# Altium footprint library Passives.PcbLib: 53 footprints (part 1 of 4)
Each footprint in its own frame and in the unit in brackets; x right, y up, seen from the top. Pads: shape width x height; smd on the part's side, far side on the other; paste and mask are expansions set on the pad; w line width, h text height; cw(c..) or ccw(c..) is an arc to the next point about the centre after c.
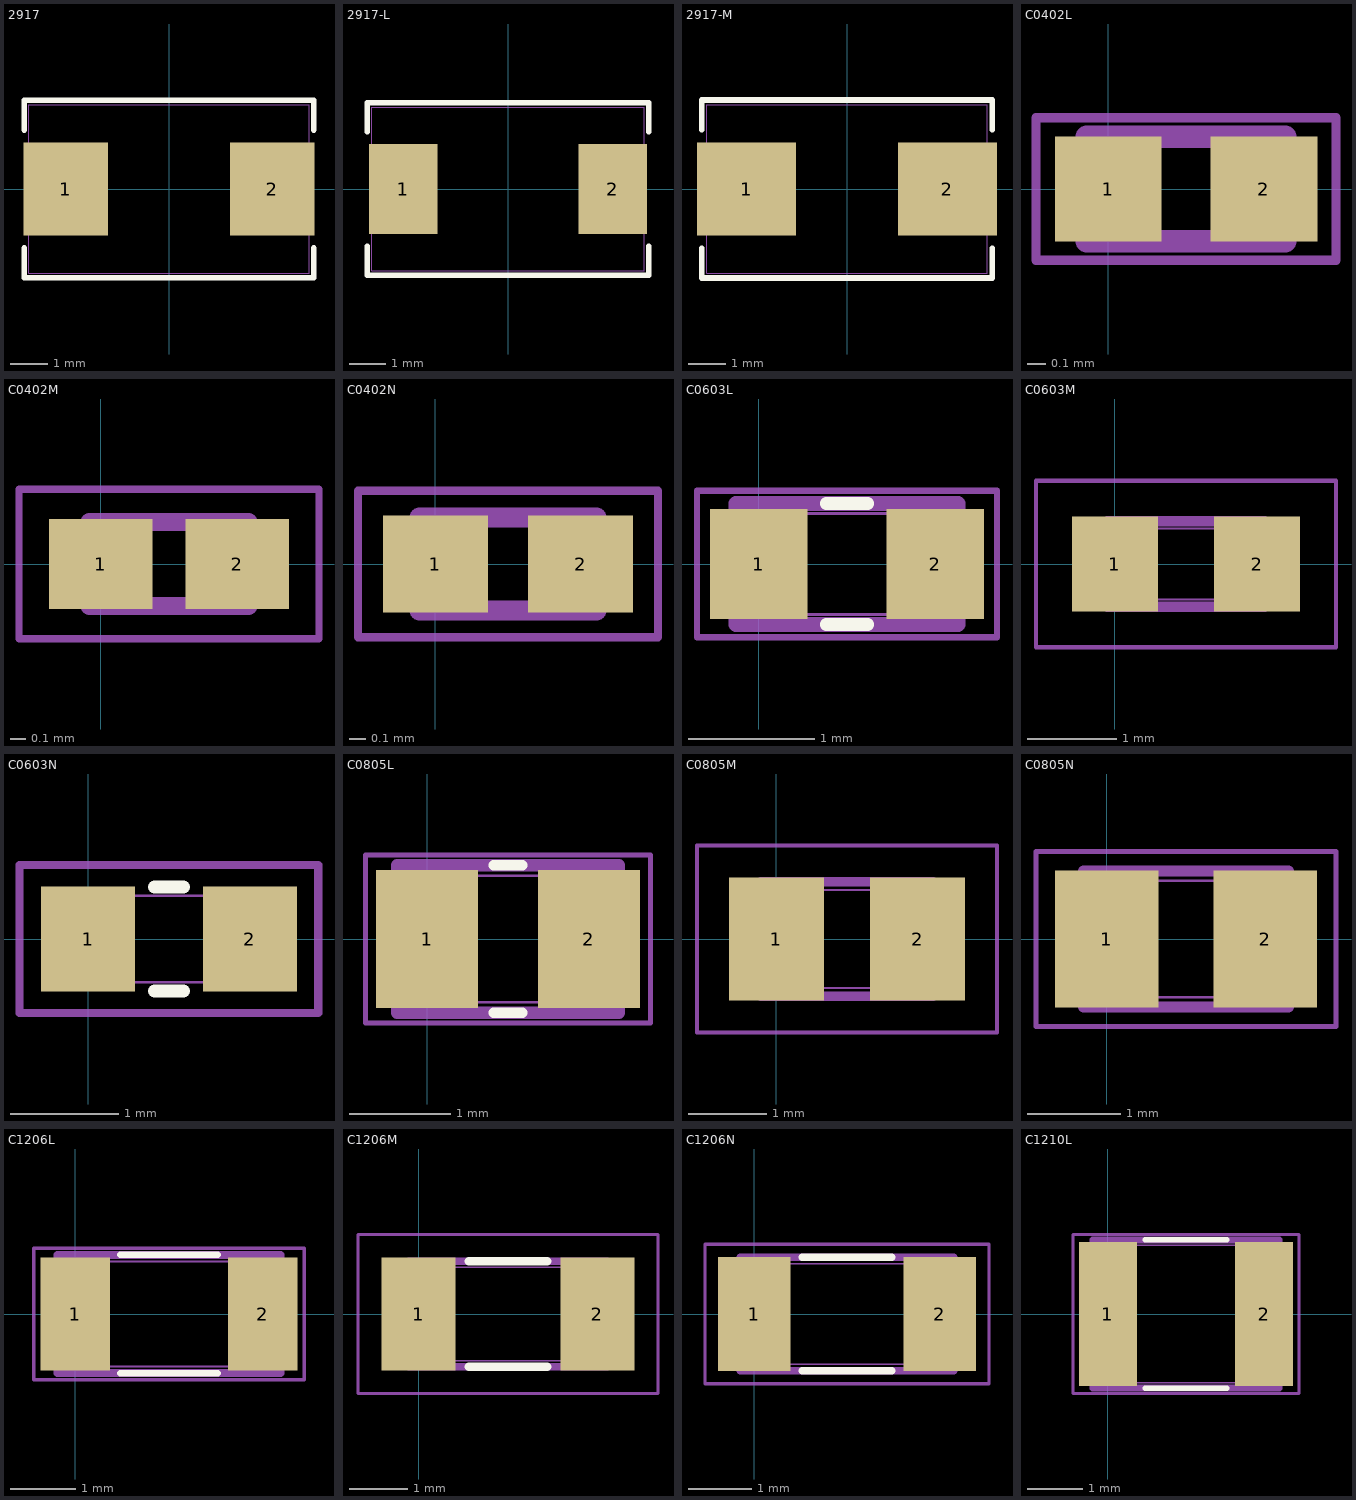
[diagram p0: the footprints below, top view; thin cyan lines are the x and y axes]

## 2917 [mil]
pads (2):
  rect 89x98 smd: 1(-109,0) 2(109,0)
Top Overlay:
  lines w6: -152.5,-62.1 -152.5,-93.5 152.5,-93.5 152.5,-62.1 ; -152.5,62.1 -152.5,93.5 152.5,93.5 152.5,62.1
Assembly Top:
  lines w1: -147.5,-88.5 147.5,-88.5 147.5,88.5 -147.5,88.5 -147.5,-88.5
  text ".designator" at -136,-25 h50
3D body: height 75, standoff 0, extent -147.48,-88.5 147.49,88.51

## 2917-L [mil]
pads (2):
  rect 74x98 all layers, no hole: 1(-113.5,0) 2(113.5,0)
Top Overlay:
  lines w6: -152.5,-61.95 -152.5,-93.5 152.5,-93.5 152.5,-61.95 ; -152.5,61.95 -152.5,93.5 152.5,93.5 152.5,61.95
Outline:
  lines w1: -147.5,-88.5 -147.5,88.5 147.5,88.5 147.5,-88.5 -147.5,-88.5
3D body: height 75, standoff 0, extent -147.48,-88.5 147.49,88.51

## 2917-M [mil]
pads (2):
  rect 104x98 all layers, no hole: 1(-105.5,0) 2(105.5,0)
Top Overlay:
  lines w6: -152.5,-62.1 -152.5,-93.5 152.5,-93.5 152.5,-62.1 ; -152.5,62.1 -152.5,93.5 152.5,93.5 152.5,62.1
Outline:
  lines w1: -147.5,-88.5 -147.5,88.5 147.5,88.5 147.5,-88.5 -147.5,-88.5
3D body: height 75, standoff 0, extent -147.48,-88.5 147.48,88.51

## C0402L [mm]
height 0.55
pads (2):
  rect 0.57x0.56 smd: 1(0,0) 2(0.83,0)
Assembly Top:
  lines w0.12: -0.115,-0.28 0.945,-0.28 0.945,0.28 -0.115,0.28 -0.115,-0.28
3D Top:
  lines w0.025: -0.085,-0.25 -0.085,0.25 ; -0.085,-0.25 0.215,-0.25 0.215,0.25 -0.085,0.25 ; -0.085,-0.25 0.915,-0.25 ; -0.085,-0.25 -0.085,0.25 ; -0.085,0.25 0.915,0.25 ; 0.915,-0.25 0.615,-0.25 0.615,0.25 0.915,0.25 ; 0.915,-0.25 0.915,0.25 ; 0.915,-0.25 0.915,0.25
Courtyard Top:
  circle w0.05: c0,0 r0.142
  lines w0.05: -0.19,0 0.19,0 ; 0,-0.19 0,0.19 ; -0.385,-0.38 1.215,-0.38 1.215,0.38 -0.385,0.38 -0.385,-0.38
3D body: height 0.55, standoff 0, extent -0.09,-0.25 0.91,0.25

## C0402M [mm]
height 0.55
pads (2):
  rect 0.69x0.6 smd: 1(0,0) 2(0.91,0)
Assembly Top:
  lines w0.12: -0.075,-0.28 -0.075,0.28 0.985,0.28 0.985,-0.28 -0.075,-0.28
3D Top:
  lines w0.025: -0.045,-0.25 -0.045,0.25 ; -0.045,-0.25 0.955,-0.25 ; -0.045,-0.25 0.255,-0.25 0.255,0.25 -0.045,0.25 ; -0.045,-0.25 -0.045,0.25 ; -0.045,0.25 0.955,0.25 ; 0.955,-0.25 0.955,0.25 ; 0.955,-0.25 0.955,0.25 ; 0.955,-0.25 0.655,-0.25 0.655,0.25 0.955,0.25
Courtyard Top:
  circle w0.05: c0,0 r0.188
  lines w0.05: -0.25,0 0.25,0 ; 0,-0.25 0,0.25 ; -0.545,-0.5 -0.545,0.5 1.455,0.5 1.455,-0.5 -0.545,-0.5
3D body: height 0.55, standoff 0, extent -0.039,-0.25 0.961,0.25

## C0402N [mm]
height 0.55
pads (2):
  rect 0.63x0.58 smd: 1(0,0) 2(0.87,0)
Assembly Top:
  lines w0.12: -0.095,-0.28 -0.095,0.28 0.965,0.28 0.965,-0.28 -0.095,-0.28
3D Top:
  lines w0.025: -0.065,-0.25 -0.065,0.25 ; -0.065,-0.25 0.935,-0.25 ; -0.065,-0.25 0.235,-0.25 0.235,0.25 -0.065,0.25 ; -0.065,-0.25 -0.065,0.25 ; -0.065,0.25 0.935,0.25 ; 0.935,-0.25 0.935,0.25 ; 0.935,-0.25 0.935,0.25 ; 0.935,-0.25 0.635,-0.25 0.635,0.25 0.935,0.25
Courtyard Top:
  circle w0.05: c0,0 r0.165
  lines w0.05: -0.22,0 0.22,0 ; 0,-0.22 0,0.22 ; -0.465,-0.44 -0.465,0.44 1.335,0.44 1.335,-0.44 -0.465,-0.44
3D body: height 0.55, standoff 0, extent -0.065,-0.25 0.935,0.25

## C0603L [mm]
height 0.9
pads (2):
  rect 0.77x0.87 smd: 1(0,0) 2(1.4,0)
Top Overlay:
  lines w0.1: 0.535,-0.48 0.865,-0.48 ; 0.535,0.48 0.865,0.48
Assembly Top:
  lines w0.12: -0.18,-0.48 -0.18,0.48 1.58,0.48 1.58,-0.48 -0.18,-0.48
3D Top:
  lines w0.025: -0.1,-0.4 -0.1,0.4 ; -0.1,-0.4 1.5,-0.4 ; -0.1,-0.4 0.25,-0.4 0.25,0.4 -0.1,0.4 ; -0.1,-0.4 -0.1,0.4 ; -0.1,0.4 1.5,0.4 ; 1.5,-0.4 1.5,0.4 ; 1.5,-0.4 1.5,0.4 ; 1.5,-0.4 1.15,-0.4 1.15,0.4 1.5,0.4
Courtyard Top:
  circle w0.05: c0,0 r0.218
  lines w0.05: -0.29,0 0.29,0 ; 0,-0.29 0,0.29 ; -0.49,-0.58 -0.49,0.58 1.89,0.58 1.89,-0.58 -0.49,-0.58
3D body: height 0.9, standoff 0, extent -0.101,-0.4 1.499,0.4

## C0603M [mm]
height 0.9
pads (2):
  rect 0.97x1.07 smd: 1(0,0) 2(1.6,0)
Assembly Top:
  lines w0.12: -0.08,-0.48 -0.08,0.48 1.68,0.48 1.68,-0.48 -0.08,-0.48
3D Top:
  lines w0.025: 0,-0.4 0,0.4 ; 0,-0.4 1.6,-0.4 ; 0,-0.4 0.35,-0.4 0.35,0.4 0,0.4 ; 0,-0.4 0,0.4 ; 0,0.4 1.6,0.4 ; 1.6,-0.4 1.6,0.4 ; 1.6,-0.4 1.6,0.4 ; 1.6,-0.4 1.25,-0.4 1.25,0.4 1.6,0.4
Courtyard Top:
  circle w0.05: c0,0 r0.25
  lines w0.05: -0.35,0 0.35,0 ; 0,-0.35 0,0.35 ; -0.89,-0.94 -0.89,0.94 2.49,0.94 2.49,-0.94 -0.89,-0.94
3D body: height 0.9, standoff 0, extent 0.001,-0.4 1.601,0.4

## C0603N [mm]
height 0.9
pads (2):
  rect 0.87x0.97 smd: 1(0,0) 2(1.5,0)
Top Overlay:
  lines w0.12: 0.615,-0.48 0.885,-0.48 ; 0.615,0.48 0.885,0.48
Assembly Top:
  lines w0.076: -0.635,-0.686 2.134,-0.686 2.134,0.686 -0.635,0.686 -0.635,-0.686
  text ".designator" at -0.457,-0.483 h0.76
3D Top:
  lines w0.025: -0.05,-0.4 -0.05,0.4 ; -0.05,-0.4 0.3,-0.4 0.3,0.4 -0.05,0.4 ; -0.05,-0.4 1.55,-0.4 ; -0.05,-0.4 -0.05,0.4 ; -0.05,0.4 1.55,0.4 ; 1.55,-0.4 1.2,-0.4 1.2,0.4 1.55,0.4 ; 1.55,-0.4 1.55,0.4 ; 1.55,-0.4 1.55,0.4
Courtyard Top:
  circle w0.05: c0,0 r0.25
  lines w0.05: -0.345,0 0.345,0 ; 0,-0.345 0,0.345 ; -0.64,-0.69 2.14,-0.69 2.14,0.69 -0.64,0.69 -0.64,-0.69
3D body: height 0.9, standoff 0, extent -0.05,-0.4 1.55,0.4

## C0805L [mm]
height 1.4
pads (2):
  rect 1.01x1.37 smd: 1(0,0) 2(1.6,0)
Top Overlay:
  lines w0.1: 0.655,-0.73 0.945,-0.73 ; 0.655,0.73 0.945,0.73
Assembly Top:
  lines w0.12: -0.3,-0.73 1.9,-0.73 1.9,0.73 -0.3,0.73 -0.3,-0.73
3D Top:
  lines w0.025: -0.2,-0.625 -0.2,0.625 ; -0.2,-0.625 0.3,-0.625 0.3,0.625 -0.2,0.625 ; -0.2,-0.625 1.8,-0.625 ; -0.2,-0.625 -0.2,0.625 ; -0.2,0.625 1.8,0.625 ; 1.8,-0.625 1.3,-0.625 1.3,0.625 1.8,0.625 ; 1.8,-0.625 1.8,0.625 ; 1.8,-0.625 1.8,0.625
Courtyard Top:
  circle w0.05: c0,0 r0.25
  lines w0.05: -0.35,0 0.35,0 ; 0,-0.35 0,0.35 ; -0.61,-0.83 2.21,-0.83 2.21,0.83 -0.61,0.83 -0.61,-0.83
3D body: height 1.4, standoff 0, extent -0.201,-0.625 1.799,0.625

## C0805M [mm]
height 1.4
pads (2):
  rect 1.21x1.57 smd: 1(0,0) 2(1.8,0)
Assembly Top:
  lines w0.12: -0.2,-0.73 -0.2,0.73 2,0.73 2,-0.73 -0.2,-0.73
3D Top:
  lines w0.025: -0.1,-0.625 -0.1,0.625 ; -0.1,-0.625 1.9,-0.625 ; -0.1,-0.625 0.4,-0.625 0.4,0.625 -0.1,0.625 ; -0.1,-0.625 -0.1,0.625 ; -0.1,0.625 1.9,0.625 ; 1.9,-0.625 1.9,0.625 ; 1.9,-0.625 1.9,0.625 ; 1.9,-0.625 1.4,-0.625 1.4,0.625 1.9,0.625
Courtyard Top:
  circle w0.05: c0,0 r0.25
  lines w0.05: -0.35,0 0.35,0 ; 0,-0.35 0,0.35 ; -1.01,-1.19 -1.01,1.19 2.81,1.19 2.81,-1.19 -1.01,-1.19
3D body: height 1.4, standoff 0, extent -0.099,-0.625 1.901,0.625

## C0805N [mm]
height 1.4
pads (2):
  rect 1.11x1.47 smd: 1(0,0) 2(1.7,0)
Assembly Top:
  lines w0.12: -0.25,-0.73 1.95,-0.73 1.95,0.73 -0.25,0.73 -0.25,-0.73
3D Top:
  lines w0.025: -0.15,-0.625 -0.15,0.625 ; -0.15,-0.625 0.35,-0.625 0.35,0.625 -0.15,0.625 ; -0.15,-0.625 1.85,-0.625 ; -0.15,-0.625 -0.15,0.625 ; -0.15,0.625 1.85,0.625 ; 1.85,-0.625 1.35,-0.625 1.35,0.625 1.85,0.625 ; 1.85,-0.625 1.85,0.625 ; 1.85,-0.625 1.85,0.625
Courtyard Top:
  circle w0.05: c0,0 r0.25
  lines w0.05: -0.35,0 0.35,0 ; 0,-0.35 0,0.35 ; -0.76,-0.94 2.46,-0.94 2.46,0.94 -0.76,0.94 -0.76,-0.94
3D body: height 1.4, standoff 0, extent -0.15,-0.625 1.85,0.625

## C1206L [mm]
height 1.9
pads (2):
  rect 1.06x1.72 smd: 1(0,0) 2(2.85,0)
Top Overlay:
  lines w0.1: 0.68,-0.9 2.17,-0.9 ; 0.68,0.9 2.17,0.9
Assembly Top:
  lines w0.12: -0.275,-0.9 3.125,-0.9 3.125,0.9 -0.275,0.9 -0.275,-0.9
3D Top:
  lines w0.025: -0.175,-0.8 -0.175,0.8 ; -0.175,-0.8 0.325,-0.8 0.325,0.8 -0.175,0.8 ; -0.175,-0.8 3.025,-0.8 ; -0.175,-0.8 -0.175,0.8 ; -0.175,0.8 3.025,0.8 ; 3.025,-0.8 2.525,-0.8 2.525,0.8 3.025,0.8 ; 3.025,-0.8 3.025,0.8 ; 3.025,-0.8 3.025,0.8
Courtyard Top:
  circle w0.05: c0,0 r0.25
  lines w0.05: -0.35,0 0.35,0 ; 0,-0.35 0,0.35 ; -0.635,-1 3.485,-1 3.485,1 -0.635,1 -0.635,-1
3D body: height 1.9, standoff 0, extent -0.176,-0.8 3.024,0.8

## C1206M [mm]
height 1.9
pads (2):
  rect 1.26x1.92 smd: 1(0,0) 2(3.05,0)
Top Overlay:
  lines w0.15: 0.855,-0.9 2.195,-0.9 ; 0.855,0.9 2.195,0.9
Assembly Top:
  lines w0.12: -0.175,-0.9 -0.175,0.9 3.225,0.9 3.225,-0.9 -0.175,-0.9
3D Top:
  lines w0.025: -0.075,-0.8 -0.075,0.8 ; -0.075,-0.8 3.125,-0.8 ; -0.075,-0.8 0.425,-0.8 0.425,0.8 -0.075,0.8 ; -0.075,-0.8 -0.075,0.8 ; -0.075,0.8 3.125,0.8 ; 3.125,-0.8 3.125,0.8 ; 3.125,-0.8 3.125,0.8 ; 3.125,-0.8 2.625,-0.8 2.625,0.8 3.125,0.8
Courtyard Top:
  circle w0.05: c0,0 r0.25
  lines w0.05: -0.35,0 0.35,0 ; 0,-0.35 0,0.35 ; -1.035,-1.36 -1.035,1.36 4.085,1.36 4.085,-1.36 -1.035,-1.36
3D body: height 1.9, standoff 0, extent -0.074,-0.8 3.126,0.8

## C1206N [mm]
height 1.9
pads (2):
  rect 1.16x1.82 smd: 1(0,0) 2(2.95,0)
Top Overlay:
  lines w0.12: 0.76,-0.9 2.19,-0.9 ; 0.76,0.9 2.19,0.9
Assembly Top:
  lines w0.12: -0.225,-0.9 3.175,-0.9 3.175,0.9 -0.225,0.9 -0.225,-0.9
3D Top:
  lines w0.025: -0.125,-0.8 -0.125,0.8 ; -0.125,-0.8 0.375,-0.8 0.375,0.8 -0.125,0.8 ; -0.125,-0.8 3.075,-0.8 ; -0.125,-0.8 -0.125,0.8 ; -0.125,0.8 3.075,0.8 ; 3.075,-0.8 2.575,-0.8 2.575,0.8 3.075,0.8 ; 3.075,-0.8 3.075,0.8 ; 3.075,-0.8 3.075,0.8
Courtyard Top:
  circle w0.05: c0,0 r0.25
  lines w0.05: -0.35,0 0.35,0 ; 0,-0.35 0,0.35 ; -0.785,-1.11 3.735,-1.11 3.735,1.11 -0.785,1.11 -0.785,-1.11
3D body: height 1.9, standoff 0, extent -0.125,-0.8 3.075,0.8

## C1210L [mm]
height 2.1
pads (2):
  rect 1.06x2.62 smd: 1(0,0) 2(2.85,0)
Top Overlay:
  lines w0.1: 0.68,-1.35 2.17,-1.35 ; 0.68,1.35 2.17,1.35
Assembly Top:
  lines w0.12: -0.275,-1.35 3.125,-1.35 3.125,1.35 -0.275,1.35 -0.275,-1.35
3D Top:
  lines w0.025: -0.175,-1.25 -0.175,1.25 ; -0.175,-1.25 0.325,-1.25 0.325,1.25 -0.175,1.25 ; -0.175,-1.25 3.025,-1.25 ; -0.175,-1.25 -0.175,1.25 ; -0.175,1.25 3.025,1.25 ; 3.025,-1.25 2.525,-1.25 2.525,1.25 3.025,1.25 ; 3.025,-1.25 3.025,1.25 ; 3.025,-1.25 3.025,1.25
Courtyard Top:
  circle w0.05: c0,0 r0.25
  lines w0.05: -0.35,0 0.35,0 ; 0,-0.35 0,0.35 ; -0.635,-1.45 3.485,-1.45 3.485,1.45 -0.635,1.45 -0.635,-1.45
3D body: height 2.1, standoff 0, extent -0.176,-1.25 3.024,1.25